# Altium integrated library CUI-RCJ-021.IntLib: 1 symbol
Pins are listed as number, name and electrical type; pins without a type are passive.

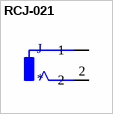
[diagram p0: symbol RCJ-021]

## RCJ-021
designator J
1 Port,  Vertical, Through Hole, Shielded, RCA Jack Connector; MF: CUI Devices; MP: RCJ-021; Value: *; CUI_purchase_URL: https://www.cuidevices.com/product/interconnect/connectors/rca-connectors/rcj-02-series?utm_source=snapeda.com&utm_medium=referral&utm_campaign=snapedaBOM; Price: None; Availability: Unavailable; Package: None; SnapEDA_Link: https://www.snapeda.com/parts/RCJ-021/CUI%20Devices/view-part/1320589/?ref=snap
footprint CUI_RCJ-021
pins: 1A 1, 1B 1, 2